# Altium footprint library user_components_lib.PcbLib: 52 footprints (part 2 of 4)
Each footprint in its own frame and in the unit in brackets; x right, y up, seen from the top. Pads: shape width x height; smd on the part's side, far side on the other; paste and mask are expansions set on the pad; w line width, h text height; cw(c..) or ccw(c..) is an arc to the next point about the centre after c.
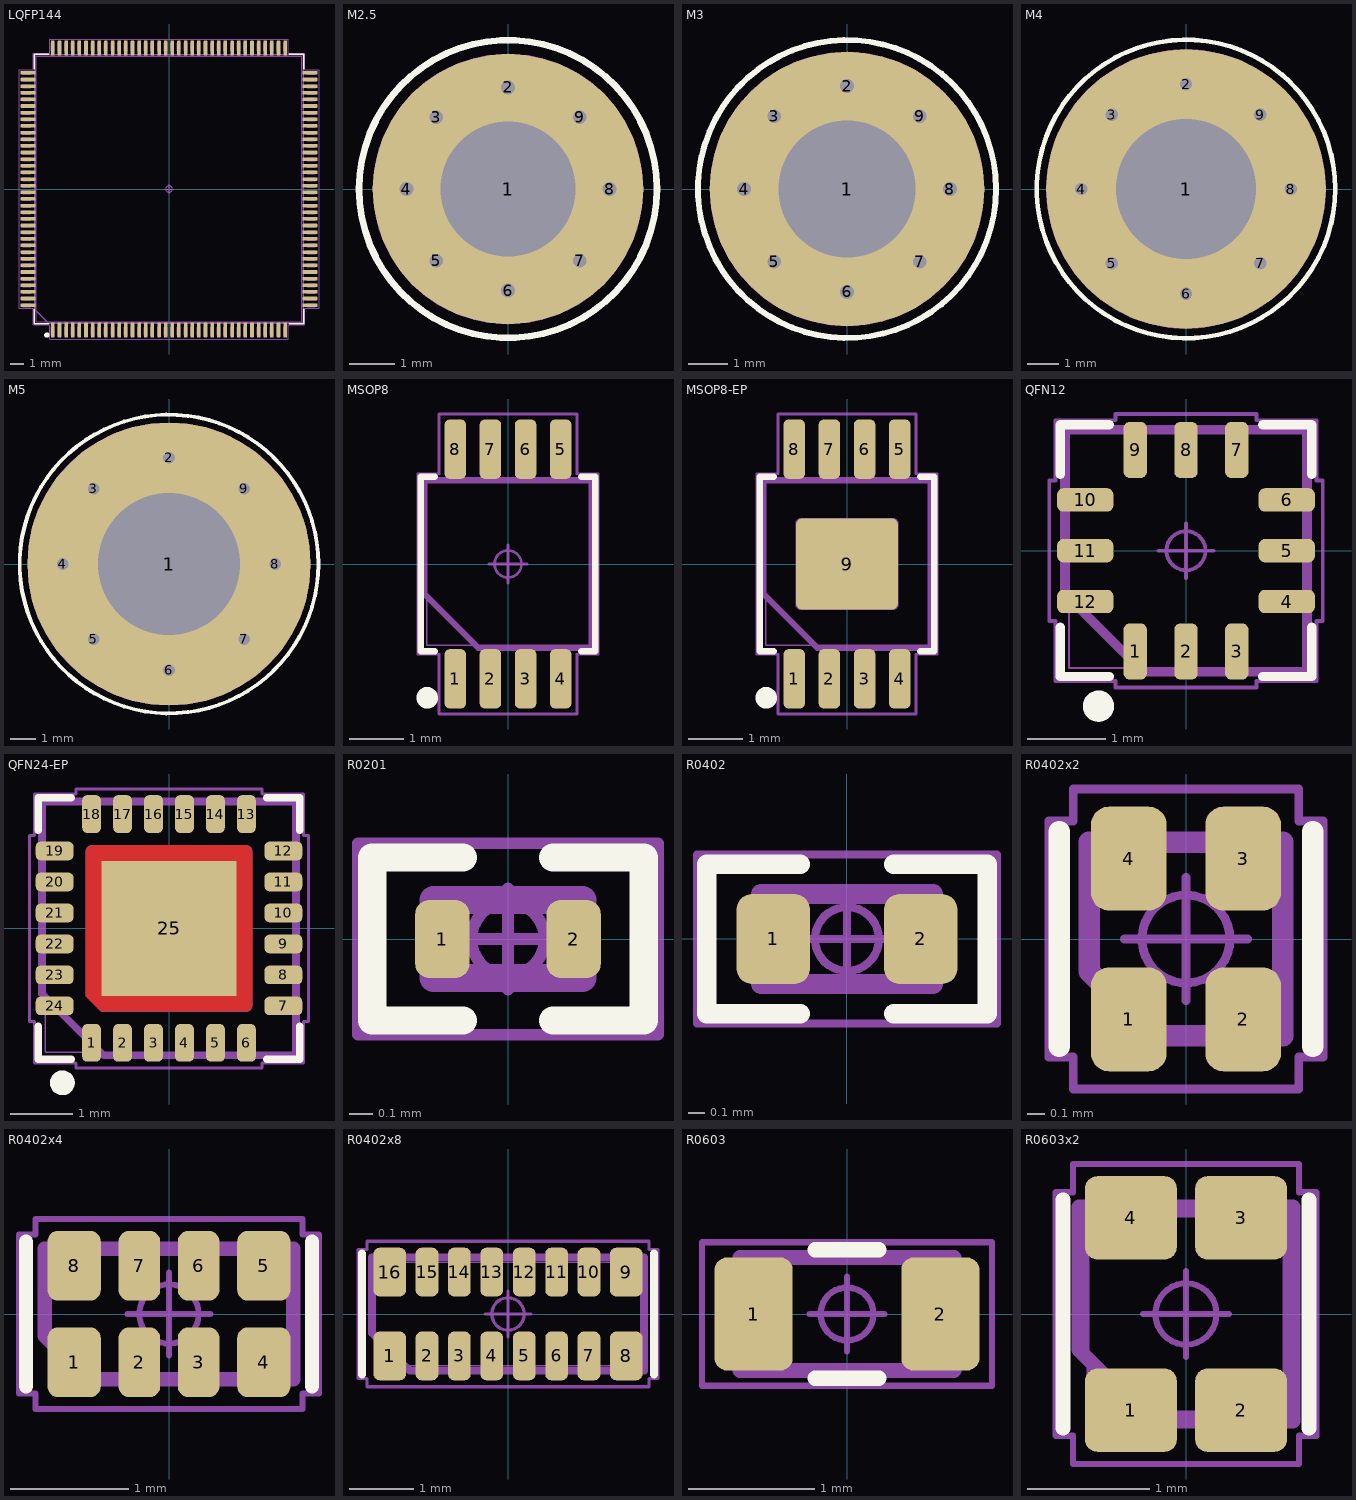
[diagram p1: the footprints below, top view; thin cyan lines are the x and y axes]

## LQFP144 [mm] "Quad Flat Pack (QFP), 0.50 mm pitch; 144 pin, square, 36 pin X 36 pin, 20.00 mm L X 20.00 mm W X 1.60 mm H body"
height 1.6
pads (144):
  rrect52% 0.27x1.15 smd: 1(-8.75,-10.625) 2(-8.25,-10.625) 3(-7.75,-10.625) 4(-7.25,-10.625) 5(-6.75,-10.625) 6(-6.25,-10.625) 7(-5.75,-10.625) 8(-5.25,-10.625) 9(-4.75,-10.625) 10(-4.25,-10.625) 11(-3.75,-10.625) 12(-3.25,-10.625) 13(-2.75,-10.625) 14(-2.25,-10.625) 15(-1.75,-10.625) 16(-1.25,-10.625) 17(-0.75,-10.625) 18(-0.25,-10.625) 19(0.25,-10.625) 20(0.75,-10.625) 21(1.25,-10.625) 22(1.75,-10.625) 23(2.25,-10.625) 24(2.75,-10.625) 25(3.25,-10.625) 26(3.75,-10.625) 27(4.25,-10.625) 28(4.75,-10.625) 29(5.25,-10.625) 30(5.75,-10.625) 31(6.25,-10.625) 32(6.75,-10.625) 33(7.25,-10.625) 34(7.75,-10.625) 35(8.25,-10.625) 36(8.75,-10.625) 73(8.75,10.625) 74(8.25,10.625) 75(7.75,10.625) 76(7.25,10.625) 77(6.75,10.625) 78(6.25,10.625) 79(5.75,10.625) 80(5.25,10.625) 81(4.75,10.625) 82(4.25,10.625) 83(3.75,10.625) 84(3.25,10.625) 85(2.75,10.625) 86(2.25,10.625) 87(1.75,10.625) 88(1.25,10.625) 89(0.75,10.625) 90(0.25,10.625) 91(-0.25,10.625) 92(-0.75,10.625) 93(-1.25,10.625) 94(-1.75,10.625) 95(-2.25,10.625) 96(-2.75,10.625) 97(-3.25,10.625) 98(-3.75,10.625) 99(-4.25,10.625) 100(-4.75,10.625) 101(-5.25,10.625) 102(-5.75,10.625) 103(-6.25,10.625) 104(-6.75,10.625) 105(-7.25,10.625) 106(-7.75,10.625) 107(-8.25,10.625) 108(-8.75,10.625)
  rrect52% 1.15x0.27 smd: 37(10.625,-8.75) 38(10.625,-8.25) 39(10.625,-7.75) 40(10.625,-7.25) 41(10.625,-6.75) 42(10.625,-6.25) 43(10.625,-5.75) 44(10.625,-5.25) 45(10.625,-4.75) 46(10.625,-4.25) 47(10.625,-3.75) 48(10.625,-3.25) 49(10.625,-2.75) 50(10.625,-2.25) 51(10.625,-1.75) 52(10.625,-1.25) 53(10.625,-0.75) 54(10.625,-0.25) 55(10.625,0.25) 56(10.625,0.75) 57(10.625,1.25) 58(10.625,1.75) 59(10.625,2.25) 60(10.625,2.75) 61(10.625,3.25) 62(10.625,3.75) 63(10.625,4.25) 64(10.625,4.75) 65(10.625,5.25) 66(10.625,5.75) 67(10.625,6.25) 68(10.625,6.75) 69(10.625,7.25) 70(10.625,7.75) 71(10.625,8.25) 72(10.625,8.75) 109(-10.625,8.75) 110(-10.625,8.25) 111(-10.625,7.75) 112(-10.625,7.25) 113(-10.625,6.75) 114(-10.625,6.25) 115(-10.625,5.75) 116(-10.625,5.25) 117(-10.625,4.75) 118(-10.625,4.25) 119(-10.625,3.75) 120(-10.625,3.25) 121(-10.625,2.75) 122(-10.625,2.25) 123(-10.625,1.75) 124(-10.625,1.25) 125(-10.625,0.75) 126(-10.625,0.25) 127(-10.625,-0.25) 128(-10.625,-0.75) 129(-10.625,-1.25) 130(-10.625,-1.75) 131(-10.625,-2.25) 132(-10.625,-2.75) 133(-10.625,-3.25) 134(-10.625,-3.75) 135(-10.625,-4.25) 136(-10.625,-4.75) 137(-10.625,-5.25) 138(-10.625,-5.75) 139(-10.625,-6.25) 140(-10.625,-6.75) 141(-10.625,-7.25) 142(-10.625,-7.75) 143(-10.625,-8.25) 144(-10.625,-8.75)
Top Overlay:
  circle w0.2: c-9.205,-11 r0.1
  lines w0.12: -10.16,-9.065 -10.16,-10.16 -9.065,-10.16 ; -10.16,9.065 -10.16,10.16 -9.065,10.16 ; 9.065,-10.16 10.16,-10.16 10.16,-9.065 ; 9.065,10.16 10.16,10.16 10.16,9.065
Mechanical 9:
  lines w0.12: -10.1,-9.1 -10.1,10.1 10.1,10.1 10.1,-10.1 -9.1,-10.1 -10.1,-9.1
  text ".Designator" at -4.511,-0.453 h2
Mechanical 11:
  text ".Designator" at -2.252,-0.226 h1
Mechanical 15:
  lines w0.05: -11.3,-8.985 -10.22,-8.985 -10.22,-10.22 -8.985,-10.22 -8.985,-11.3 8.985,-11.3 8.985,-10.22 10.22,-10.22 10.22,-8.985 11.3,-8.985 11.3,8.985 10.22,8.985 10.22,10.22 8.985,10.22 8.985,11.3 -8.985,11.3 -8.985,10.22 -10.22,10.22 -10.22,8.985 -11.3,8.985 -11.3,-8.985
Mechanical 17:
  circle w0.05: c0,0 r0.25
  lines w0.05: -0.35,0 0.35,0 ; 0,-0.35 0,0.35
Mechanical 21:
  drawing of 580 lines, arcs and shapes, not listed
3D body "LQFP144.STEP": height 1.6, standoff 0, extent -11,-11 11,11

## M2.5 [mm] "Mounting Hole, Plated; 6.00 mm Pad, 3.00 mm Hole (with 8 vias)"
pads (9):
  round 6 hole 3 paste-2539.97: 1(0,0)
  round 0.45 hole 0.3 paste-2539.97 mask-0.45: 2(0,2.25) 3(-1.591,1.591) 4(-2.25,0) 5(-1.591,-1.591) 6(0,-2.25) 7(1.591,-1.591) 8(2.25,0) 9(1.591,1.591)
Top Overlay:
  circle w0.15: c0,0 r3.3
Mechanical 9:
  circle w0.12: c0,0 r2.94
  text ".Designator" at -4.511,-0.453 h2
Mechanical 11:
  text ".Designator" at -2.704,-0.271 h1.2
Mechanical 17:
  circle w0.05: c0,0 r3.325
  circle w0.05: c0,0 r0.25
  lines w0.05: -0.35,0 0.35,0 ; 0,-0.35 0,0.35

## M3 [mm] "Mounting Hole, Plated; 7.00 mm Pad, 3.50 mm Hole (with 8 vias)"
pads (9):
  round 7 hole 3.5 paste-2539.97: 1(0,0)
  round 0.53 hole 0.35 paste-2539.97 mask-0.53: 2(0,2.625) 3(-1.856,1.856) 4(-2.625,0) 5(-1.856,-1.856) 6(0,-2.625) 7(1.856,-1.856) 8(2.625,0) 9(1.856,1.856)
Top Overlay:
  circle w0.15: c0,0 r3.8
Mechanical 9:
  circle w0.12: c0,0 r3.44
  text ".Designator" at -4.511,-0.453 h2
Mechanical 11:
  text ".Designator" at -2.704,-0.271 h1.2
Mechanical 17:
  circle w0.05: c0,0 r3.825
  circle w0.05: c0,0 r0.25
  lines w0.05: -0.35,0 0.35,0 ; 0,-0.35 0,0.35

## M4 [mm] "Mounting Hole, Plated; 9.00 mm Pad, 4.50 mm Hole (with 8 vias)"
pads (9):
  round 9 hole 4.5 paste-2539.97: 1(0,0)
  round 0.6 hole 0.4 paste-2539.97 mask-0.6: 2(0,3.375) 3(-2.386,2.386) 4(-3.375,0) 5(-2.386,-2.386) 6(0,-3.375) 7(2.386,-2.386) 8(3.375,0) 9(2.386,2.386)
Top Overlay:
  circle w0.15: c0,0 r4.8
Mechanical 9:
  circle w0.12: c0,0 r4.44
  text ".Designator" at -4.511,-0.453 h2
Mechanical 11:
  text ".Designator" at -2.704,-0.271 h1.2
Mechanical 17:
  circle w0.05: c0,0 r0.25
  circle w0.05: c0,0 r4.825
  lines w0.05: -0.35,0 0.35,0 ; 0,-0.35 0,0.35

## M5 [mm] "Mounting Hole, Plated; 11.00 mm Pad, 5.50 mm Hole (with 8 vias)"
pads (9):
  round 11 hole 5.5 paste-2539.97: 1(0,0)
  round 0.68 hole 0.45 paste-2539.97 mask-0.68: 2(0,4.125) 3(-2.917,2.917) 4(-4.125,0) 5(-2.917,-2.917) 6(0,-4.125) 7(2.917,-2.917) 8(4.125,0) 9(2.917,2.917)
Top Overlay:
  circle w0.15: c0,0 r5.8
Mechanical 9:
  circle w0.12: c0,0 r5.44
  text ".Designator" at -4.511,-0.453 h2
Mechanical 11:
  text ".Designator" at -2.704,-0.271 h1.2
Mechanical 17:
  circle w0.05: c0,0 r5.825
  circle w0.05: c0,0 r0.25
  lines w0.05: -0.35,0 0.35,0 ; 0,-0.35 0,0.35

## MSOP8 [mm] "Small Outline Pkg (SOP), 0.65 mm pitch; 8 pin, 3.00 mm L X 3.00 mm W X 1.10 mm H body"
height 1.1
pads (8):
  rrect50% 0.4x1.1 smd: 1(-0.975,-2.125) 2(-0.325,-2.125) 3(0.325,-2.125) 4(0.975,-2.125) 5(0.975,2.125) 6(0.325,2.125) 7(-0.325,2.125) 8(-0.975,2.125)
Top Overlay:
  circle w0.2: c-1.495,-2.475 r0.1
  lines w0.12: -1.355,-1.61 -1.61,-1.61 -1.61,1.61 -1.355,1.61 ; 1.355,-1.61 1.61,-1.61 1.61,1.61 1.355,1.61
Mechanical 9:
  lines w0.12: -1.55,-0.55 -0.55,-1.55 1.55,-1.55 1.55,1.55 -1.55,1.55 -1.55,-0.55
  text ".Designator" at -4.511,-0.453 h2
Mechanical 11:
  text ".Designator" at -2.252,-0.226 h1
Mechanical 15:
  lines w0.05: -1.67,-1.67 -1.67,1.67 -1.275,1.67 -1.275,2.775 1.275,2.775 1.275,1.67 1.67,1.67 1.67,-1.67 1.275,-1.67 1.275,-2.775 -1.275,-2.775 -1.275,-1.67 -1.67,-1.67
Mechanical 17:
  circle w0.05: c0,0 r0.25
  lines w0.05: -0.35,0 0.35,0 ; 0,-0.35 0,0.35
Mechanical 21:
  lines w0.025: -1.5,-1.5 -1.5,1.5 1.5,1.5 1.5,-1.5 -1.5,-1.5 ; -1.125,-2.45 -0.825,-2.45 -0.825,-1.95 -1.125,-1.95 -1.125,-2.45 ; -1.125,1.95 -0.825,1.95 -0.825,2.45 -1.125,2.45 -1.125,1.95 ; -0.475,-2.45 -0.175,-2.45 -0.175,-1.95 -0.475,-1.95 -0.475,-2.45 ; -0.475,1.95 -0.175,1.95 -0.175,2.45 -0.475,2.45 -0.475,1.95 ; 0.175,-2.45 0.475,-2.45 0.475,-1.95 0.175,-1.95 0.175,-2.45 ; 0.175,1.95 0.475,1.95 0.475,2.45 0.175,2.45 0.175,1.95 ; 0.825,-2.45 1.125,-2.45 1.125,-1.95 0.825,-1.95 0.825,-2.45 ; 0.825,1.95 1.125,1.95 1.125,2.45 0.825,2.45 0.825,1.95
3D body "MSOP8.STEP": height 1.1, standoff 0, extent -1.5,-2.45 1.5,2.45

## MSOP8-EP [mm] "Small Outline Pkg (SOP) with tab, 0.65 mm pitch; 9 pin, 3.00 mm L X 3.00 mm W X 1.10 mm H body"
height 1.1
pads (9):
  rrect50% 0.4x1.1 smd: 1(-0.975,-2.125) 2(-0.325,-2.125) 3(0.325,-2.125) 4(0.975,-2.125) 5(0.975,2.125) 6(0.325,2.125) 7(-0.325,2.125) 8(-0.975,2.125)
  rrect12% 1.88x1.68 smd paste-1.88: 9(0,0)
Top Overlay:
  circle w0.2: c-1.495,-2.475 r0.1
  lines w0.12: -1.355,-1.61 -1.61,-1.61 -1.61,1.61 -1.355,1.61 ; 1.355,-1.61 1.61,-1.61 1.61,1.61 1.355,1.61
Top Paste:
  region: 0.84,-0.74 0.1,-0.74 0.1,-0.1 0.84,-0.1
  region: 0.84,0.1 0.1,0.1 0.1,0.74 0.84,0.74
  region: -0.1,-0.74 -0.84,-0.74 -0.84,-0.1 -0.1,-0.1
  region: -0.1,0.1 -0.84,0.1 -0.84,0.74 -0.1,0.74
Mechanical 9:
  lines w0.12: -1.55,-0.55 -0.55,-1.55 1.55,-1.55 1.55,1.55 -1.55,1.55 -1.55,-0.55
  text ".Designator" at -4.511,-0.453 h2
Mechanical 11:
  text ".Designator" at -2.252,-0.226 h1
Mechanical 15:
  lines w0.05: -1.67,-1.67 -1.67,1.67 -1.275,1.67 -1.275,2.775 1.275,2.775 1.275,1.67 1.67,1.67 1.67,-1.67 1.275,-1.67 1.275,-2.775 -1.275,-2.775 -1.275,-1.67 -1.67,-1.67
Mechanical 17:
  circle w0.05: c0,0 r0.25
  lines w0.05: -0.35,0 0.35,0 ; 0,-0.35 0,0.35
Mechanical 21:
  lines w0.025: -1.5,-1.5 -1.5,1.5 1.5,1.5 1.5,-1.5 -1.5,-1.5 ; -1.125,-2.45 -0.825,-2.45 -0.825,-1.95 -1.125,-1.95 -1.125,-2.45 ; -1.125,1.95 -0.825,1.95 -0.825,2.45 -1.125,2.45 -1.125,1.95 ; -0.94,-0.74 ccw(c-0.84,-0.74) -0.84,-0.84 0.84,-0.84 ccw(c0.84,-0.74) 0.94,-0.74 0.94,0.74 ccw(c0.84,0.74) 0.84,0.84 -0.84,0.84 ccw(c-0.84,0.74) -0.94,0.74 -0.94,-0.74 ; -0.475,-2.45 -0.175,-2.45 -0.175,-1.95 -0.475,-1.95 -0.475,-2.45 ; -0.475,1.95 -0.175,1.95 -0.175,2.45 -0.475,2.45 -0.475,1.95 ; 0.175,-2.45 0.475,-2.45 0.475,-1.95 0.175,-1.95 0.175,-2.45 ; 0.175,1.95 0.475,1.95 0.475,2.45 0.175,2.45 0.175,1.95 ; 0.825,-2.45 1.125,-2.45 1.125,-1.95 0.825,-1.95 0.825,-2.45 ; 0.825,1.95 1.125,1.95 1.125,2.45 0.825,2.45 0.825,1.95
3D body "MSOP8-EP.STEP": height 1.1, standoff 0, extent -1.5,-2.45 1.5,2.45

## QFN12 [mm] "Quad Flat No-Lead (QFN), 0.65 mm pitch; 12 pin, square, 3 pin X 3 pin, 3.00 mm L X 3.00 mm W X 0.95 mm H body"
height 0.95
pads (12):
  rrect53% 0.3x0.72 smd: 1(-0.65,-1.29) 2(0,-1.29) 3(0.65,-1.29) 7(0.65,1.29) 8(0,1.29) 9(-0.65,1.29)
  rrect53% 0.72x0.3 smd: 4(1.29,-0.65) 5(1.29,0) 6(1.29,0.65) 10(-1.29,0.65) 11(-1.29,0) 12(-1.29,-0.65)
Top Overlay:
  circle w0.2: c-1.12,-1.99 r0.1
  lines w0.12: -1.61,-0.98 -1.61,-1.61 -0.98,-1.61 ; -1.61,0.98 -1.61,1.61 -0.98,1.61 ; 0.98,-1.61 1.61,-1.61 1.61,-0.98 ; 0.98,1.61 1.61,1.61 1.61,0.98
Mechanical 9:
  lines w0.12: -1.55,-0.55 -1.55,1.55 1.55,1.55 1.55,-1.55 -0.55,-1.55 -1.55,-0.55
  text ".Designator" at -4.511,-0.453 h2
Mechanical 11:
  text ".Designator" at -2.252,-0.226 h1
Mechanical 15:
  lines w0.05: -1.75,-0.9 -1.67,-0.9 -1.67,-1.67 -0.9,-1.67 -0.9,-1.75 0.9,-1.75 0.9,-1.67 1.67,-1.67 1.67,-0.9 1.75,-0.9 1.75,0.9 1.67,0.9 1.67,1.67 0.9,1.67 0.9,1.75 -0.9,1.75 -0.9,1.67 -1.67,1.67 -1.67,0.9 -1.75,0.9 -1.75,-0.9
Mechanical 17:
  circle w0.05: c0,0 r0.25
  lines w0.05: -0.35,0 0.35,0 ; 0,-0.35 0,0.35
Mechanical 21:
  lines w0.025: -1.5,-1.5 1.5,-1.5 1.5,1.5 -1.5,1.5 -1.5,-1.5 ; -1.5,-0.775 -1.5,-0.525 -1.075,-0.525 cw(c-1.075,-0.65) -1.075,-0.775 -1.5,-0.775 ; -1.5,-0.125 -1.5,0.125 -1.075,0.125 cw(c-1.075,0) -1.075,-0.125 -1.5,-0.125 ; -1.5,0.525 -1.5,0.775 -1.075,0.775 cw(c-1.075,0.65) -1.075,0.525 -1.5,0.525 ; -0.775,-1.5 -0.525,-1.5 -0.525,-1.075 ccw(c-0.65,-1.075) -0.775,-1.075 -0.775,-1.5 ; -0.775,1.075 ccw(c-0.65,1.075) -0.525,1.075 -0.525,1.5 -0.775,1.5 -0.775,1.075 ; -0.125,-1.5 0.125,-1.5 0.125,-1.075 ccw(c0,-1.075) -0.125,-1.075 -0.125,-1.5 ; -0.125,1.075 ccw(c0,1.075) 0.125,1.075 0.125,1.5 -0.125,1.5 -0.125,1.075 ; 0.525,-1.5 0.775,-1.5 0.775,-1.075 ccw(c0.65,-1.075) 0.525,-1.075 0.525,-1.5 ; 0.525,1.075 ccw(c0.65,1.075) 0.775,1.075 0.775,1.5 0.525,1.5 0.525,1.075 ; 1.075,-0.775 cw(c1.075,-0.65) 1.075,-0.525 1.5,-0.525 1.5,-0.775 1.075,-0.775 ; 1.075,-0.125 cw(c1.075,0) 1.075,0.125 1.5,0.125 1.5,-0.125 1.075,-0.125 ; 1.075,0.525 cw(c1.075,0.65) 1.075,0.775 1.5,0.775 1.5,0.525 1.075,0.525
3D body "QFN12.STEP": height 0.95, standoff 0, extent -1.55,-1.55 1.55,1.55

## QFN24-EP [mm] "Quad Flat No-Lead (QFN) with tab, 0.50 mm pitch; 25 pin, square, 6 pin X 6 pin, 4.00 mm L X 4.00 mm W X 0.80 mm H body"
height 0.8
pads (25):
  rrect53% 0.3x0.61 smd: 1(-1.25,-1.845) 2(-0.75,-1.845) 3(-0.25,-1.845) 4(0.25,-1.845) 5(0.75,-1.845) 6(1.25,-1.845) 13(1.25,1.845) 14(0.75,1.845) 15(0.25,1.845) 16(-0.25,1.845) 17(-0.75,1.845) 18(-1.25,1.845)
  rrect53% 0.61x0.3 smd: 7(1.845,-1.25) 8(1.845,-0.75) 9(1.845,-0.25) 10(1.845,0.25) 11(1.845,0.75) 12(1.845,1.25) 19(-1.845,1.25) 20(-1.845,0.75) 21(-1.845,0.25) 22(-1.845,-0.25) 23(-1.845,-0.75) 24(-1.845,-1.25)
  rect 2.18x2.18 smd paste-2.18 mask-2.18: 25(0,0)
Top Layer:
  region: 1.34,0 1.34,-1.24 1.339,-1.256 1.335,-1.271 1.329,-1.285 1.321,-1.299 1.311,-1.311 1.299,-1.321 1.285,-1.329 1.271,-1.335 1.256,-1.339 -1.09,-1.34 -1.34,-1.09 -1.34,1.24 -1.339,1.256 -1.335,1.271 -1.329,1.285 -1.321,1.299 -1.311,1.311 -1.299,1.321 -1.285,1.329 -1.271,1.335 -1.256,1.339 1.24,1.34 1.256,1.339 1.271,1.335 1.285,1.329 1.299,1.321 1.311,1.311 1.321,1.299 1.329,1.285 1.335,1.271 1.339,1.256 1.34,1.24
Top Overlay:
  circle w0.2: c-1.72,-2.49 r0.1
  lines w0.12: -2.11,-1.58 -2.11,-2.11 -1.58,-2.11 ; -2.11,1.58 -2.11,2.11 -1.58,2.11 ; 1.58,-2.11 2.11,-2.11 2.11,-1.58 ; 1.58,2.11 2.11,2.11 2.11,1.58
Top Paste:
  region: 1.187,-1.187 0.151,-1.187 0.151,-0.151 1.187,-0.151
  region: 1.187,0.151 0.151,0.151 0.151,1.187 1.187,1.187
  region: -0.151,-1.138 -1.138,-1.138 -1.138,-0.151 -0.151,-0.151
  region: -0.151,0.151 -1.187,0.151 -1.187,1.187 -0.151,1.187
Top Solder:
  region: 1.34,0 1.34,-1.24 1.339,-1.256 1.335,-1.271 1.329,-1.285 1.321,-1.299 1.311,-1.311 1.299,-1.321 1.285,-1.329 1.271,-1.335 1.256,-1.339 -1.09,-1.34 -1.34,-1.09 -1.34,1.24 -1.339,1.256 -1.335,1.271 -1.329,1.285 -1.321,1.299 -1.311,1.311 -1.299,1.321 -1.285,1.329 -1.271,1.335 -1.256,1.339 1.24,1.34 1.256,1.339 1.271,1.335 1.285,1.329 1.299,1.321 1.311,1.311 1.321,1.299 1.329,1.285 1.335,1.271 1.339,1.256 1.34,1.24
Mechanical 9:
  lines w0.12: -2.05,-1.05 -1.05,-2.05 2.05,-2.05 2.05,2.05 -2.05,2.05 -2.05,-1.05
  text ".Designator" at -4.511,-0.453 h2
Mechanical 11:
  text ".Designator" at -2.252,-0.226 h1
Mechanical 15:
  lines w0.05: -2.25,-1.5 -2.25,1.5 -2.17,1.5 -2.17,2.17 -1.5,2.17 -1.5,2.25 1.5,2.25 1.5,2.17 2.17,2.17 2.17,1.5 2.25,1.5 2.25,-1.5 2.17,-1.5 2.17,-2.17 1.5,-2.17 1.5,-2.25 -1.5,-2.25 -1.5,-2.17 -2.17,-2.17 -2.17,-1.5 -2.25,-1.5
Mechanical 17:
  circle w0.05: c0,0 r0.25
  lines w0.05: -0.35,0 0.35,0 ; 0,-0.35 0,0.35
Mechanical 21:
  lines w0.025: -1.338,1.237 -1.338,-1.088 -1.088,-1.338 1.238,-1.338 ; -1.337,1.237 cw(c-1.237,1.237) -1.237,1.337 ; -1.238,1.338 1.237,1.338 ; 1.237,-1.337 ccw(c1.237,-1.237) 1.337,-1.237 ; 1.237,1.337 cw(c1.237,1.237) 1.337,1.237 ; 1.338,-1.237 1.338,1.238 ; -2,-2 -2,2 2,2 2,-2 -2,-2 ; -2,-1.375 -1.725,-1.375 ccw(c-1.725,-1.25) -1.725,-1.125 -2,-1.125 -2,-1.375 ; -2,-0.875 -1.725,-0.875 ccw(c-1.725,-0.75) -1.725,-0.625 -2,-0.625 -2,-0.875 ; -2,-0.375 -1.725,-0.375 ccw(c-1.725,-0.25) -1.725,-0.125 -2,-0.125 -2,-0.375 ; -2,0.125 -1.725,0.125 ccw(c-1.725,0.25) -1.725,0.375 -2,0.375 -2,0.125 ; -2,0.625 -1.725,0.625 ccw(c-1.725,0.75) -1.725,0.875 -2,0.875 -2,0.625 ; -2,1.125 -1.725,1.125 ccw(c-1.725,1.25) -1.725,1.375 -2,1.375 -2,1.125 ; -1.375,-2 -1.375,-1.725 cw(c-1.25,-1.725) -1.125,-1.725 -1.125,-2 -1.375,-2 ; -1.375,1.725 ccw(c-1.25,1.725) -1.125,1.725 -1.125,2 -1.375,2 -1.375,1.725 ; -0.875,-2 -0.875,-1.725 cw(c-0.75,-1.725) -0.625,-1.725 -0.625,-2 -0.875,-2 ; -0.875,1.725 ccw(c-0.75,1.725) -0.625,1.725 -0.625,2 -0.875,2 -0.875,1.725 ; -0.375,-2 -0.375,-1.725 cw(c-0.25,-1.725) -0.125,-1.725 -0.125,-2 -0.375,-2 ; -0.375,1.725 ccw(c-0.25,1.725) -0.125,1.725 -0.125,2 -0.375,2 -0.375,1.725 ; 0.125,-2 0.125,-1.725 cw(c0.25,-1.725) 0.375,-1.725 0.375,-2 0.125,-2 ; 0.125,1.725 ccw(c0.25,1.725) 0.375,1.725 0.375,2 0.125,2 0.125,1.725 ; 0.625,-2 0.625,-1.725 cw(c0.75,-1.725) 0.875,-1.725 0.875,-2 0.625,-2 ; 0.625,1.725 ccw(c0.75,1.725) 0.875,1.725 0.875,2 0.625,2 0.625,1.725 ; 1.125,-2 1.125,-1.725 cw(c1.25,-1.725) 1.375,-1.725 1.375,-2 1.125,-2 ; 1.125,1.725 ccw(c1.25,1.725) 1.375,1.725 1.375,2 1.125,2 1.125,1.725 ; 1.725,-1.375 cw(c1.725,-1.25) 1.725,-1.125 2,-1.125 2,-1.375 1.725,-1.375 ; 1.725,-0.875 cw(c1.725,-0.75) 1.725,-0.625 2,-0.625 2,-0.875 1.725,-0.875 ; 1.725,-0.375 cw(c1.725,-0.25) 1.725,-0.125 2,-0.125 2,-0.375 1.725,-0.375 ; 1.725,0.125 cw(c1.725,0.25) 1.725,0.375 2,0.375 2,0.125 1.725,0.125 ; 1.725,0.625 cw(c1.725,0.75) 1.725,0.875 2,0.875 2,0.625 1.725,0.625 ; 1.725,1.125 cw(c1.725,1.25) 1.725,1.375 2,1.375 2,1.125 1.725,1.125
3D body "QFN24-EP.STEP": height 0.8, standoff 0, extent -2.05,-2.05 2.05,2.05

## R0201 [mm]
height 0.26
pads (2):
  rrect52% 0.23x0.33 smd: 1(-0.278,0) 2(0.278,0)
Top Overlay:
  lines w0.12: -0.192,-0.345 -0.575,-0.345 -0.575,0.345 -0.192,0.345 ; 0.192,-0.345 0.575,-0.345 0.575,0.345 0.192,0.345
Mechanical 9:
  lines w0.12: -0.315,-0.165 -0.315,0.165 0.315,0.165 0.315,-0.165 -0.315,-0.165
  text ".Designator" at -1.126,-0.113 h0.5
Mechanical 11:
  text ".Designator" at -2.252,-0.226 h1
Mechanical 15:
  lines w0.05: -0.635,-0.405 -0.635,0.405 0.635,0.405 0.635,-0.405 -0.635,-0.405
Mechanical 17:
  circle w0.05: c0,0 r0.155
  lines w0.05: -0.215,0 0.215,0 ; 0,-0.215 0,0.215
Mechanical 21:
  lines w0.025: -0.3,-0.15 -0.2,-0.15 -0.2,0.15 -0.3,0.15 ; -0.3,-0.15 -0.3,0.15 ; -0.3,-0.15 -0.3,0.15 ; -0.3,-0.15 0.3,-0.15 ; -0.3,0.15 0.3,0.15 ; 0.3,-0.15 0.3,0.15 ; 0.3,-0.15 0.2,-0.15 0.2,0.15 0.3,0.15 ; 0.3,-0.15 0.3,0.15
3D body "R0201.STEP": height 0.26, standoff 0, extent -0.3,-0.15 0.3,0.15

## R0402 [mm]
height 0.4
pads (2):
  rrect44% 0.45x0.55 smd: 1(-0.45,0) 2(0.45,0)
Top Overlay:
  lines w0.12: -0.285,-0.455 -0.855,-0.455 -0.855,0.455 -0.285,0.455 ; 0.285,-0.455 0.855,-0.455 0.855,0.455 0.285,0.455
Mechanical 9:
  lines w0.12: -0.525,-0.275 -0.525,0.275 0.525,0.275 0.525,-0.275 -0.525,-0.275
  text ".Designator" at -1.126,-0.113 h0.5
Mechanical 11:
  text ".Designator" at -2.252,-0.226 h1
Mechanical 15:
  lines w0.05: -0.915,-0.515 -0.915,0.515 0.915,0.515 0.915,-0.515 -0.915,-0.515
Mechanical 17:
  circle w0.05: c0,0 r0.195
  lines w0.05: -0.27,0 0.27,0 ; 0,-0.27 0,0.27
Mechanical 21:
  lines w0.025: -0.5,-0.25 -0.3,-0.25 -0.3,0.25 -0.5,0.25 ; -0.5,-0.25 -0.5,0.25 ; -0.5,-0.25 -0.5,0.25 ; -0.5,-0.25 0.5,-0.25 ; -0.5,0.25 0.5,0.25 ; 0.5,-0.25 0.5,0.25 ; 0.5,-0.25 0.3,-0.25 0.3,0.25 0.5,0.25 ; 0.5,-0.25 0.5,0.25
3D body "R0402.STEP": height 0.4, standoff 0, extent -0.5,-0.25 0.5,0.25

## R0402x2 [mm] "Resistor, Chip Array, 2-Sided Convex, 0.65 mm pitch; 4 pin, 1.00 mm L X 1.00 mm W X 0.45 mm H body"
height 0.45
pads (4):
  rrect47% 0.43x0.59 smd: 1(-0.325,-0.457) 2(0.325,-0.457) 3(0.325,0.457) 4(-0.325,0.457)
Top Overlay:
  lines w0.12: -0.72,-0.61 -0.72,0.61 ; 0.72,-0.61 0.72,0.61
Mechanical 9:
  lines w0.12: -0.55,-0.183 -0.183,-0.55 0.55,-0.55 0.55,0.55 -0.55,0.55 -0.55,-0.183
  text ".Designator" at -1.398,-0.14 h0.62
Mechanical 11:
  text ".Designator" at -2.252,-0.226 h1
Mechanical 15:
  lines w0.05: -0.78,-0.67 -0.78,0.67 -0.64,0.67 -0.64,0.852 0.64,0.852 0.64,0.67 0.78,0.67 0.78,-0.67 0.64,-0.67 0.64,-0.852 -0.64,-0.852 -0.64,-0.67 -0.78,-0.67
Mechanical 17:
  circle w0.05: c0,0 r0.25
  lines w0.05: -0.35,0 0.35,0 ; 0,-0.35 0,0.35
Mechanical 21:
  lines w0.025: -0.49,-0.5 -0.16,-0.5 -0.16,-0.25 -0.49,-0.25 ; -0.49,0.25 -0.16,0.25 -0.16,0.5 -0.49,0.5 ; 0.49,-0.5 0.16,-0.5 0.16,-0.25 0.49,-0.25 ; 0.49,0.25 0.16,0.25 0.16,0.5 0.49,0.5 ; -0.5,-0.5 -0.5,0.5 0.5,0.5 0.5,-0.5 -0.5,-0.5
3D body "R0402x2.STEP": height 0.45, standoff 0, extent -0.5,-0.55 0.5,0.55

## R0402x4 [mm] "Resistor, Chip Array, 2-Sided Convex, 0.50 mm pitch; 8 pin, 2.00 mm L X 1.00 mm W X 0.55 mm H body"
height 0.55
pads (8):
  rrect40% 0.45x0.59 smd: 1(-0.8,-0.407) 4(0.8,-0.407) 5(0.8,0.407) 8(-0.8,0.407)
  rrect51% 0.35x0.59 smd: 2(-0.25,-0.407) 3(0.25,-0.407) 6(0.25,0.407) 7(-0.25,0.407)
Top Overlay:
  lines w0.12: -1.205,-0.61 -1.205,0.61 ; 1.205,-0.61 1.205,0.61
Mechanical 9:
  lines w0.12: -1.05,-0.183 -0.683,-0.55 1.05,-0.55 1.05,0.55 -1.05,0.55 -1.05,-0.183
  text ".Designator" at -1.398,-0.14 h0.62
Mechanical 11:
  text ".Designator" at -2.252,-0.226 h1
Mechanical 15:
  lines w0.05: -1.265,-0.67 -1.265,0.67 -1.125,0.67 -1.125,0.802 1.125,0.802 1.125,0.67 1.265,0.67 1.265,-0.67 1.125,-0.67 1.125,-0.802 -1.125,-0.802 -1.125,-0.67 -1.265,-0.67
Mechanical 17:
  circle w0.05: c0,0 r0.25
  lines w0.05: -0.35,0 0.35,0 ; 0,-0.35 0,0.35
Mechanical 21:
  lines w0.025: -1,-0.5 -0.6,-0.5 -0.6,-0.2 -1,-0.2 -1,-0.5 ; -1,-0.5 -1,0.5 ; -1,-0.5 1,-0.5 ; -1,0.5 -1,0.2 -0.6,0.2 -0.6,0.5 -1,0.5 ; -1,0.5 1,0.5 ; 1,-0.5 1,-0.2 0.6,-0.2 0.6,-0.5 1,-0.5 ; 1,-0.5 1,0.5 ; 1,0.5 0.6,0.5 0.6,0.2 1,0.2 1,0.5 ; -0.4,-0.5 -0.1,-0.5 -0.1,-0.2 -0.4,-0.2 -0.4,-0.5 ; -0.4,0.2 -0.1,0.2 -0.1,0.5 -0.4,0.5 -0.4,0.2 ; 0.1,-0.5 0.4,-0.5 0.4,-0.2 0.1,-0.2 0.1,-0.5 ; 0.1,0.2 0.4,0.2 0.4,0.5 0.1,0.5 0.1,0.2
3D body "R0402x4.STEP": height 0.55, standoff 0, extent -1,-0.55 1,0.55

## R0402x8 [mm] "Resistor, Chip Array, 2-Sided Convex, 0.50 mm pitch; 16 pin, 4.00 mm L X 1.60 mm W X 0.55 mm H body"
height 0.55
pads (16):
  rrect36% 0.5x0.75 smd: 1(-1.825,-0.648) 8(1.825,-0.648) 9(1.825,0.648) 16(-1.825,0.648)
  rrect51% 0.35x0.75 smd: 2(-1.25,-0.648) 3(-0.75,-0.648) 4(-0.25,-0.648) 5(0.25,-0.648) 6(0.75,-0.648) 7(1.25,-0.648) 10(1.25,0.648) 11(0.75,0.648) 12(0.25,0.648) 13(-0.25,0.648) 14(-0.75,0.648) 15(-1.25,0.648)
Top Overlay:
  lines w0.12: -2.255,-0.935 -2.255,0.935 ; 2.255,-0.935 2.255,0.935
Mechanical 9:
  lines w0.12: -2.1,-0.292 -2.1,0.875 2.1,0.875 2.1,-0.875 -1.517,-0.875 -2.1,-0.292
  text ".Designator" at -2.859,-0.287 h1.27
Mechanical 11:
  text ".Designator" at -2.252,-0.226 h1
Mechanical 15:
  lines w0.05: -2.315,-0.995 -2.175,-0.995 -2.175,-1.123 2.175,-1.123 2.175,-0.995 2.315,-0.995 2.315,0.995 2.175,0.995 2.175,1.123 -2.175,1.123 -2.175,0.995 -2.315,0.995 -2.315,-0.995
Mechanical 17:
  circle w0.05: c0,0 r0.25
  lines w0.05: -0.35,0 0.35,0 ; 0,-0.35 0,0.35
Mechanical 21:
  lines w0.025: -2,-0.8 2,-0.8 ; -2,0.8 2,0.8 ; -2.05,-0.8 -2.05,0.8 ; -2.05,-0.8 -2.05,-0.4 -1.6,-0.4 -1.6,-0.8 -2.05,-0.8 ; -2.05,0.8 -1.6,0.8 -1.6,0.4 -2.05,0.4 -2.05,0.8 ; 2.05,-0.4 2.05,0.4 ; 2.05,-0.4 2.05,-0.8 1.6,-0.8 1.6,-0.4 2.05,-0.4 ; 2.05,0.4 2.05,0.8 1.6,0.8 1.6,0.4 2.05,0.4 ; -1.4,-0.8 -1.4,-0.4 -1.1,-0.4 -1.1,-0.8 -1.4,-0.8 ; -1.4,0.4 -1.4,0.8 -1.1,0.8 -1.1,0.4 -1.4,0.4 ; -0.9,-0.8 -0.9,-0.4 -0.6,-0.4 -0.6,-0.8 -0.9,-0.8 ; -0.9,0.4 -0.9,0.8 -0.6,0.8 -0.6,0.4 -0.9,0.4 ; -0.4,-0.8 -0.4,-0.4 -0.1,-0.4 -0.1,-0.8 -0.4,-0.8 ; -0.4,0.4 -0.4,0.8 -0.1,0.8 -0.1,0.4 -0.4,0.4 ; 0.1,-0.8 0.1,-0.4 0.4,-0.4 0.4,-0.8 0.1,-0.8 ; 0.1,0.4 0.1,0.8 0.4,0.8 0.4,0.4 0.1,0.4 ; 0.6,-0.8 0.6,-0.4 0.9,-0.4 0.9,-0.8 0.6,-0.8 ; 0.6,0.4 0.6,0.8 0.9,0.8 0.9,0.4 0.6,0.4 ; 1.1,-0.8 1.1,-0.4 1.4,-0.4 1.4,-0.8 1.1,-0.8 ; 1.1,0.4 1.1,0.8 1.4,0.8 1.4,0.4 1.1,0.4
3D body "R0402x8.STEP": height 0.55, standoff 0, extent -2.05,-0.85 2.05,0.85

## R0603 [mm]
height 0.55
pads (2):
  rrect32% 0.62x0.9 smd: 1(-0.741,0) 2(0.741,0)
Top Overlay:
  lines w0.12: -0.253,-0.51 0.253,-0.51 ; -0.253,0.51 0.253,0.51
Mechanical 9:
  lines w0.12: -0.85,-0.45 0.85,-0.45 0.85,0.45 -0.85,0.45 -0.85,-0.45
  text ".Designator" at -1.126,-0.113 h0.5
Mechanical 11:
  text ".Designator" at -2.252,-0.226 h1
Mechanical 15:
  lines w0.05: -1.151,-0.57 1.151,-0.57 1.151,0.57 -1.151,0.57 -1.151,-0.57
Mechanical 17:
  circle w0.05: c0,0 r0.21
  lines w0.05: -0.298,0 0.298,0 ; 0,-0.298 0,0.298
Mechanical 21:
  lines w0.025: -0.8,-0.4 0.8,-0.4 ; -0.8,-0.4 -0.8,0.4 ; -0.8,-0.4 -0.8,0.4 ; -0.8,-0.4 -0.55,-0.4 -0.55,0.4 -0.8,0.4 ; -0.8,0.4 0.8,0.4 ; 0.8,-0.4 0.8,0.4 ; 0.8,-0.4 0.55,-0.4 0.55,0.4 0.8,0.4 ; 0.8,-0.4 0.8,0.4
3D body "R0603.STEP": height 0.55, standoff 0, extent -0.8,-0.4 0.8,0.4

## R0603x2 [mm] "Resistor, Chip Array, 2-Sided Convex, 0.80 mm pitch; 4 pin, 1.60 mm L X 1.60 mm W X 0.60 mm H body"
height 0.6
pads (4):
  rrect29% 0.75x0.68 smd: 1(-0.45,-0.786) 2(0.45,-0.786) 3(0.45,0.786) 4(-0.45,0.786)
Top Overlay:
  lines w0.12: -1.005,-0.935 -1.005,0.935 ; 1.005,-0.935 1.005,0.935
Mechanical 9:
  lines w0.12: -0.875,-0.292 -0.875,0.875 0.875,0.875 0.875,-0.875 -0.292,-0.875 -0.875,-0.292
  text ".Designator" at -2.859,-0.287 h1.27
Mechanical 11:
  text ".Designator" at -2.252,-0.226 h1
Mechanical 15:
  lines w0.05: -1.065,-0.995 -0.925,-0.995 -0.925,-1.226 0.925,-1.226 0.925,-0.995 1.065,-0.995 1.065,0.995 0.925,0.995 0.925,1.226 -0.925,1.226 -0.925,0.995 -1.065,0.995 -1.065,-0.995
Mechanical 17:
  circle w0.05: c0,0 r0.25
  lines w0.05: -0.35,0 0.35,0 ; 0,-0.35 0,0.35
Mechanical 21:
  lines w0.025: -0.8,-0.55 -0.15,-0.55 -0.15,-0.8 -0.8,-0.8 ; -0.8,0.55 -0.15,0.55 -0.15,0.8 -0.8,0.8 ; 0.8,-0.55 0.15,-0.55 0.15,-0.8 0.8,-0.8 ; 0.8,0.55 0.15,0.55 0.15,0.8 0.8,0.8 ; -0.8,-0.8 0.8,-0.8 ; -0.8,-0.8 -0.8,0.8 ; -0.8,0.8 0.8,0.8 ; 0.8,-0.8 0.8,0.8
3D body "R0603x2.STEP": height 0.6, standoff 0, extent -0.8,-0.85 0.8,0.85